# Altium footprint library RES_SMD.PcbLib: 8 footprints
Each footprint in its own frame and in the unit in brackets; x right, y up, seen from the top. Pads: shape width x height; smd on the part's side, far side on the other; paste and mask are expansions set on the pad; w line width, h text height; cw(c..) or ccw(c..) is an arc to the next point about the centre after c.
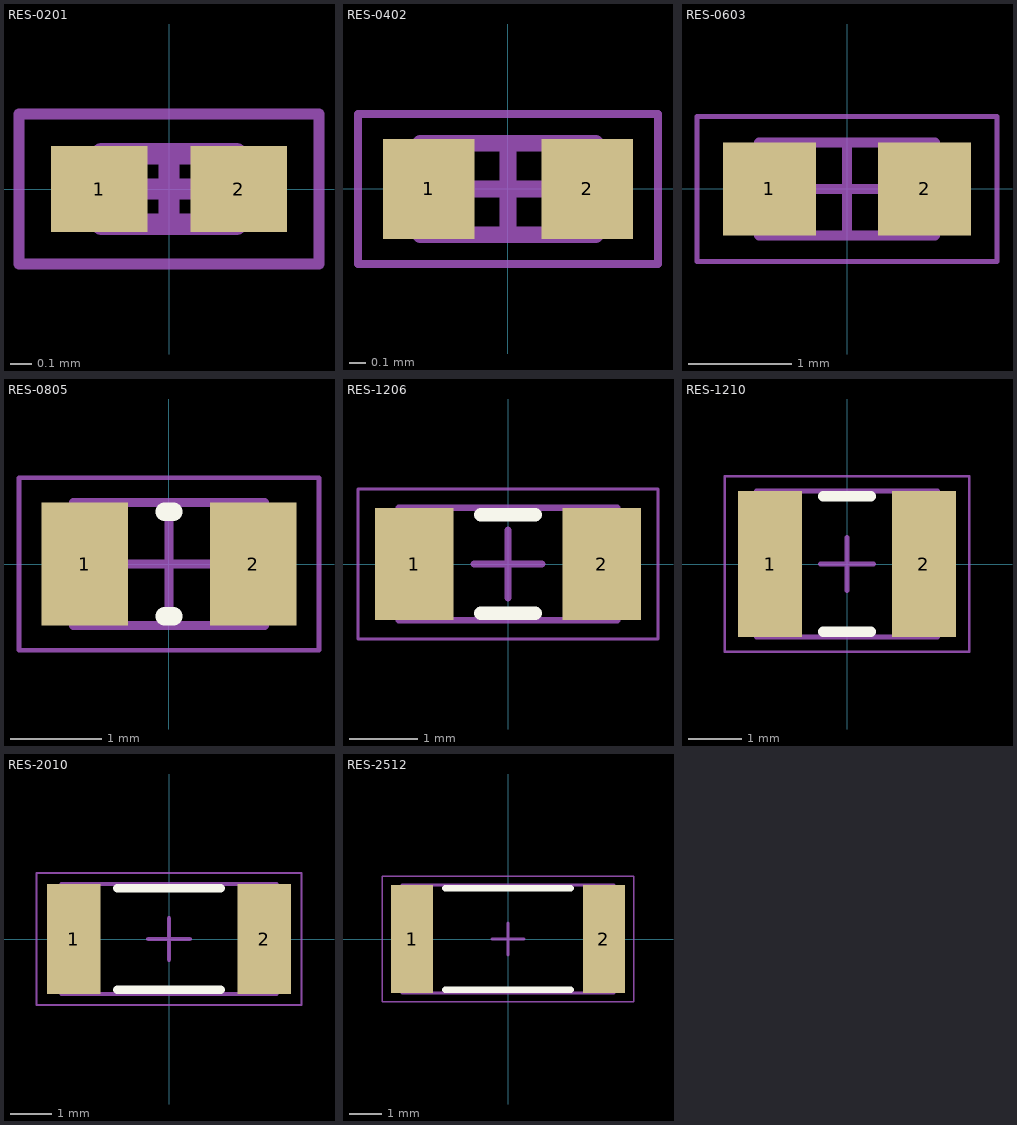
[diagram p0: the footprints below, top view; thin cyan lines are the x and y axes]

## RES-0201 [mm]
height 0.3
pads (2):
  rect 0.45x0.4 smd: 1(-0.325,0) 2(0.325,0)
Mechanical 13:
  lines w0.1: -0.315,-0.165 0.315,-0.165 0.315,0.165 -0.315,0.165 -0.315,-0.165
Mechanical 15:
  lines w0.05: -0.7,-0.35 0.7,-0.35 0.7,0.35 -0.7,0.35 -0.7,-0.35
  lines w0.1: -0.165,0 0.165,0 ; 0,-0.165 0,0.165
3D body "RES-0201.step": height 0.3, standoff 0, extent -0.315,-0.165 0.315,0.165

## RES-0402 [mm]
pads (2):
  rect 0.55x0.6 smd: 1(-0.475,0) 2(0.475,0)
Mechanical 13:
  lines w0.1: -0.525,-0.275 -0.525,0.275 0.525,0.275 0.525,-0.275 -0.525,-0.275
Mechanical 15:
  lines w0.05: -0.9,-0.45 -0.9,0.45 0.9,0.45 0.9,-0.45 -0.9,-0.45
  lines w0.1: -0.275,0 0.275,0 ; 0,-0.275 0,0.275
3D body "RES-0402.step": height 0.4, standoff 0, extent -0.525,-0.275 0.525,0.275

## RES-0603 [mm]
height 0.55
pads (2):
  rect 0.9x0.9 smd: 1(-0.75,0) 2(0.75,0)
Mechanical 13:
  lines w0.1: -0.85,-0.45 -0.85,0.45 0.85,0.45 0.85,-0.45 -0.85,-0.45
Mechanical 15:
  lines w0.05: -1.45,-0.7 -1.45,0.7 1.45,0.7 1.45,-0.7 -1.45,-0.7
  lines w0.1: -0.45,0 0.45,0 ; 0,-0.45 0,0.45
3D body "RES-0603.step": height 0.55, standoff 0, extent -0.85,-0.45 0.85,0.45

## RES-0805 [mm]
height 0.6
pads (2):
  rect 0.95x1.35 smd: 1(-0.925,0) 2(0.925,0)
Top Overlay:
  lines w0.2: -0.05,-0.575 0.05,-0.575 ; -0.05,0.575 0.05,0.575
Mechanical 13:
  lines w0.1: -1.05,-0.675 1.05,-0.675 1.05,0.675 -1.05,0.675 -1.05,-0.675
Mechanical 15:
  lines w0.05: -1.65,-0.95 1.65,-0.95 1.65,0.95 -1.65,0.95 -1.65,-0.95
  lines w0.1: -0.5,0 0.5,0 ; 0,-0.5 0,0.5
3D body "RES-0805.step": height 0.6, standoff 0, extent -1.05,-0.675 1.05,0.675

## RES-1206 [mm]
height 0.65
pads (2):
  rect 1.15x1.65 smd: 1(-1.375,0) 2(1.375,0)
Top Overlay:
  lines w0.2: -0.4,-0.725 0.4,-0.725 ; -0.4,0.725 0.4,0.725
Mechanical 13:
  lines w0.1: -1.6,-0.825 1.6,-0.825 1.6,0.825 -1.6,0.825 -1.6,-0.825
Mechanical 15:
  lines w0.05: -2.2,-1.1 2.2,-1.1 2.2,1.1 -2.2,1.1 -2.2,-1.1
  lines w0.1: -0.5,0 0.5,0 ; 0,-0.5 0,0.5
3D body "RES-1210.step": height 0.65, standoff 0, extent -1.6,-0.825 1.6,0.825

## RES-1210 [mm]
height 0.65
pads (2):
  rect 1.2x2.75 smd: 1(-1.45,0) 2(1.45,0)
Top Overlay:
  lines w0.2: -0.45,-1.275 0.45,-1.275 ; -0.45,1.275 0.45,1.275
Mechanical 13:
  lines w0.1: -1.7,-1.375 1.7,-1.375 1.7,1.375 -1.7,1.375 -1.7,-1.375
Mechanical 15:
  lines w0.05: -2.3,-1.65 2.3,-1.65 2.3,1.65 -2.3,1.65 -2.3,-1.65
  lines w0.1: -0.5,0 0.5,0 ; 0,-0.5 0,0.5
3D body "RES-1210.step": height 0.65, standoff 0, extent -1.7,-1.375 1.7,1.375

## RES-2010 [mm]
height 0.65
pads (2):
  rect 1.3x2.65 smd: 1(-2.3,0) 2(2.3,0)
Top Overlay:
  lines w0.2: -1.25,-1.225 1.25,-1.225 ; -1.25,1.225 1.25,1.225
Mechanical 13:
  lines w0.1: -2.6,-1.325 2.6,-1.325 2.6,1.325 -2.6,1.325 -2.6,-1.325
Mechanical 15:
  lines w0.05: -3.2,-1.6 3.2,-1.6 3.2,1.6 -3.2,1.6 -3.2,-1.6
  lines w0.1: -0.5,0 0.5,0 ; 0,-0.5 0,0.5
3D body "RES-2010.step": height 0.65, standoff 0, extent -2.6,-1.325 2.6,1.325

## RES-2512 [mm]
pads (2):
  rect 1.3x3.35 smd: 1(-2.975,0) 2(2.975,0)
Top Overlay:
  lines w0.2: -1.95,-1.575 1.95,-1.575 ; -1.95,1.575 1.95,1.575
Mechanical 13:
  lines w0.1: -3.275,-1.675 -3.275,1.675 3.275,1.675 3.275,-1.675 -3.275,-1.675
Mechanical 15:
  lines w0.05: -3.9,-1.95 -3.9,1.95 3.9,1.95 3.9,-1.95 -3.9,-1.95
  lines w0.1: -0.5,0 0.5,0 ; 0,-0.5 0,0.5
3D body "RES-2512.step": height 0.65, standoff 0, extent -3.275,-1.675 3.275,1.675